# EAGLE library part 735-303 (library con-wago_735)
Serie 735, Klemmenblock für Leiterplatten 2 Lötstifte/Pol in Reihe / Series 735, Compact PCB terminal block 2 solder pins/pole, in line Polzahl / Pole No.: 3 Rastermaß / Pitch: 5 mm Bemessungsspannung / Rated Voltage: 320 V Nennstrom / Nominal Current: 10 A Leiterquerschnitt / Conductor Size: 0.5 - 1.5 mm² Anschlusstechnik / Connection Technology: PUSH WIRE® Lötstiftlänge: / Solder Pin Length: 3.5 mm Leitereinführung (zur Platine) / Conductor entry angle (to PCB): 90 ° Farbe / Color: grau / gray Stand: 01.01.2012. Die jeweils aktuellen Daten zu diesem Artikel finden Sie in unserem Produktkatalog, den Sie unter www.wago.com einsehen können. As of: 01/01/2012. Please find the newest data for this article in our product catalogue, which can be viewed under www.wago.com.
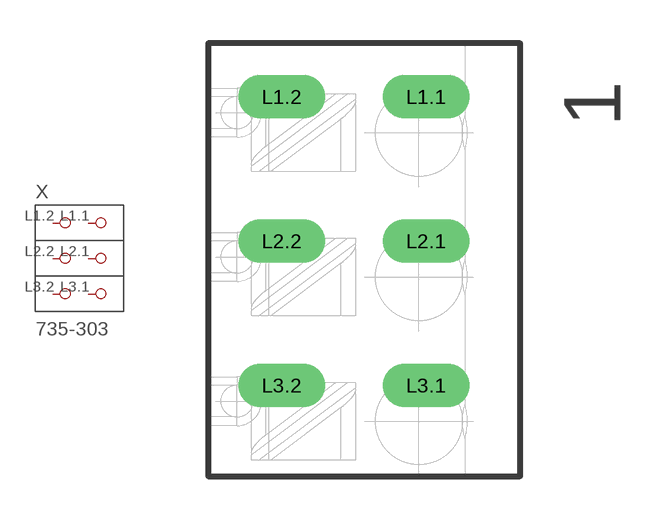
[diagram p5: symbol with the pads of P-735-303; footprint P-735-303]

Designator prefix X

## 735-303  [P-735-303]
L1.1  P1.1
L1.2  P1.2
L2.1  P2.1
L2.2  P2.2
L3.1  P3.1
L3.2  P3.2

## Footprint P-735-303 (pad centres in mm)
drill 1 long: L1.1 2.15,5.65; L1.2 -2.85,5.65; L2.1 2.15,0.65; L2.2 -2.85,0.65; L3.1 2.15,-4.35; L3.2 -2.85,-4.35